# Altium footprint library TMPC0603H.PcbLib: 1 footprints
Each footprint in its own frame and in the unit in brackets; x right, y up, seen from the top. Pads: shape width x height; smd on the part's side, far side on the other; paste and mask are expansions set on the pad; w line width, h text height; cw(c..) or ccw(c..) is an arc to the next point about the centre after c.
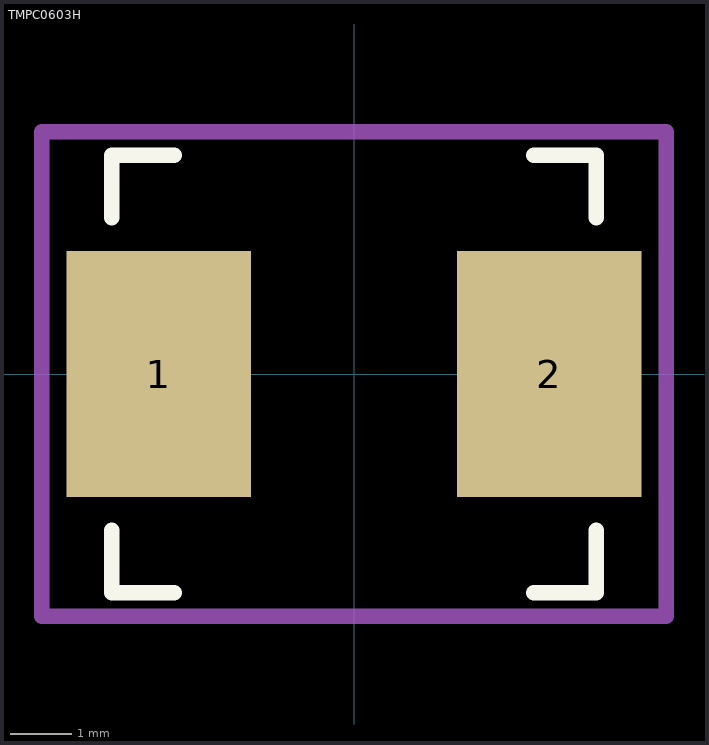
[diagram p0: the footprint, top view; thin cyan lines are the x and y axes]

## TMPC0603H [mm]
pads (2):
  rect 3x4 smd: 1(-3.175,0) 2(3.175,0)
Top Overlay:
  lines w0.254: -3.937,-2.54 -3.937,-3.556 -2.921,-3.556 ; -3.937,2.54 -3.937,3.556 -2.921,3.556 ; 2.921,-3.556 3.937,-3.556 3.937,-2.54 ; 2.921,3.556 3.937,3.556 3.937,2.54
Mechanical 15:
  lines w0.254: -5.08,-3.937 -5.08,3.937 5.08,3.937 5.08,-3.937 -5.08,-3.937
3D body "IND_TMPC_TAI.step": height 3, standoff 0, extent -3.797,-3.454 3.797,3.454